# EAGLE library part MC34671AEPR2 (library farnell-parts)
Single-cell Li-Ion Batteries
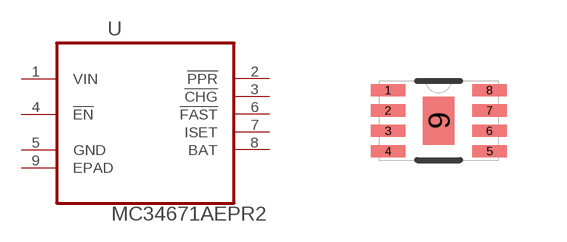
[diagram p7: symbol with the pads of DFN200X300X65-9N; footprint DFN200X300X65-9N]

Designator prefix U

## MC34671AEPR2 (MPN: MC34671AEPR2; OC_FARNELL: 1605503; OC_NEWARK: 50R4567; PACKAGE: DFN-8; SUPPLIER: FREESCALE)  [DFN200X300X65-9N]
1  VIN  pwr
2  !PPR  out
3  !CHG  out
4  !EN  in
5  GND  pas
6  !FAST  out
7  ISET  out
8  BAT  out
9  EPAD  pas

## Footprint DFN200X300X65-9N (pad centres in mm)
smd 0.864 x 0.305: 1 -1.27,0.762; 2 -1.27,0.254; 3 -1.27,-0.254; 4 -1.27,-0.762; 5 1.27,-0.762; 6 1.27,-0.254; 7 1.27,0.254; 8 1.27,0.762
smd 0.787 x 1.194: 9 0,0